# Altium footprint library mouse_library.PcbLib: 5 footprints
Each footprint in its own frame and in the unit in brackets; x right, y up, seen from the top. Pads: shape width x height; smd on the part's side, far side on the other; paste and mask are expansions set on the pad; w line width, h text height; cw(c..) or ccw(c..) is an arc to the next point about the centre after c.
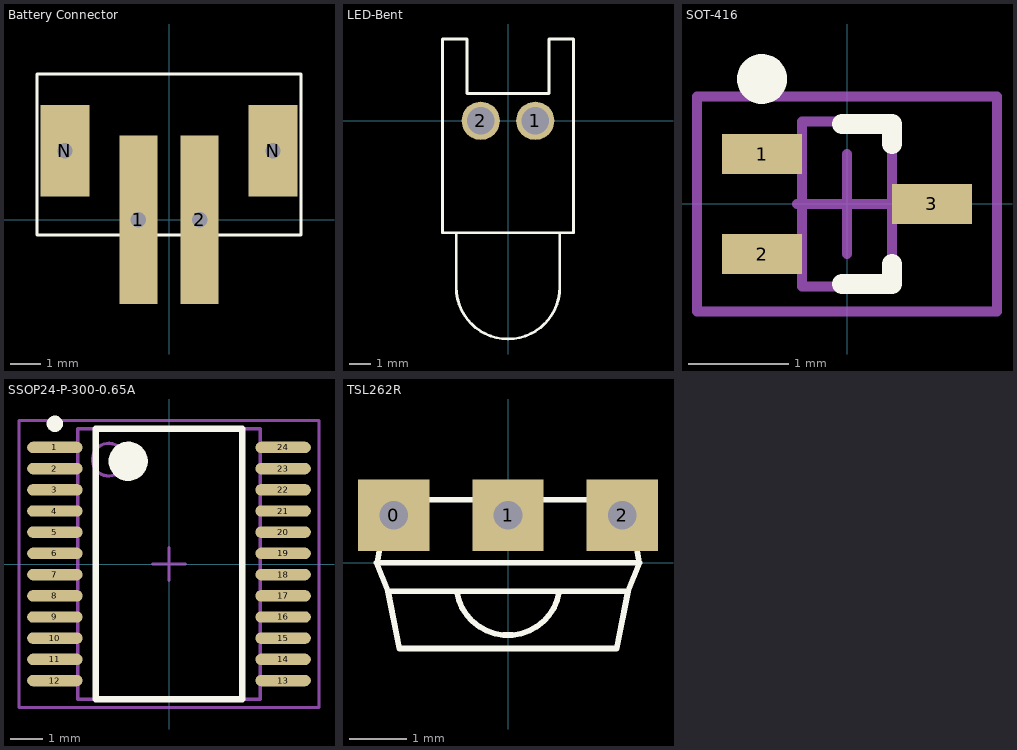
[diagram p0: the footprints below, top view; thin cyan lines are the x and y axes]

## Battery Connector [mm]
pads (4):
  rect 1.25x5.5 hole 0.5 square: 1(-1,0) 2(1,0)
  rect 1.6x3 hole 0.5 square: N(-3.4,2.25) N(3.4,2.25)
Top Overlay:
  lines w0.1: -4.318,-0.508 -4.318,4.75 4.318,4.75 4.318,-0.508 ; -4.318,-0.5 4.318,-0.5

## LED-Bent [mil] "LED; 2 Leads"
pads (2):
  round 70 hole 50: 1(50,0) 2(-50,0)
Top Overlay:
  lines w5: -95,-205 -95,-305 ccw(c0,-305) 95,-305 95,-205 ; -120,-205 120,-205 120,150 75,150 75,50 -75,50 -75,150 -120,150 -120,-205

## SOT-416 [mm] "SOT23, 3-Leads, Body 1.6x1.7mm (max), Pitch 0.50mm, IPC Medium Density"
height 0.9
pads (3):
  rect 0.8x0.4 smd: 1(-0.85,0.5) 2(-0.85,-0.5) 3(0.85,0)
Top Overlay:
  circle w0.25: c-0.85,1.25 r0.125
  lines w0.2: -0.05,-0.8 0.45,-0.8 0.45,-0.6 ; -0.05,0.8 0.45,0.8 0.45,0.6
Mechanical 13:
  lines w0.1: -0.45,-0.825 0.45,-0.825 0.45,0.825 -0.45,0.825 -0.45,-0.825
Mechanical 15:
  lines w0.1: -0.5,0 0.5,0 ; 0,-0.5 0,0.5 ; -1.5,-1.075 1.5,-1.075 1.5,1.075 -1.5,1.075 -1.5,-1.075
3D body: height 0.9, standoff 0, extent -0.45,-0.825 0.45,0.825

## SSOP24-P-300-0.65A [mm] "TSOP, 24-Leads, Body 8.3x5.6mm (max), Pitch 0.65mm, IPC Medium Density"
height 1.6
pads (24):
  oval 1.7x0.35 smd: 1(-3.5,3.575) 2(-3.5,2.925) 3(-3.5,2.275) 4(-3.5,1.625) 5(-3.5,0.975) 6(-3.5,0.325) 7(-3.5,-0.325) 8(-3.5,-0.975) 9(-3.5,-1.625) 10(-3.5,-2.275) 11(-3.5,-2.925) 12(-3.5,-3.575) 13(3.5,-3.575) 14(3.5,-2.925) 15(3.5,-2.275) 16(3.5,-1.625) 17(3.5,-0.975) 18(3.5,-0.325) 19(3.5,0.325) 20(3.5,0.975) 21(3.5,1.625) 22(3.5,2.275) 23(3.5,2.925) 24(3.5,3.575)
Top Overlay:
  circle w0.25: c-3.5,4.3 r0.125
  circle w0.6: c-1.25,3.15 r0.3
  lines w0.2: -2.25,-4.15 -2.25,4.15 2.25,4.15 2.25,-4.15 -2.25,-4.15
Mechanical 13:
  circle w0.1: c-1.85,3.2 r0.5
  lines w0.1: -2.8,-4.15 -2.8,4.15 2.8,4.15 2.8,-4.15 -2.8,-4.15
Mechanical 15:
  lines w0.1: -0.5,0 0.5,0 ; 0,-0.5 0,0.5 ; -4.6,-4.4 -4.6,4.4 4.6,4.4 4.6,-4.4 -4.6,-4.4
3D body: height 1.6, standoff 0.05, extent -2.8,-4.15 2.8,4.15

## TSL262R [mm] "IR Receiver"
pads (3):
  rect 1.25x1.25 hole 0.5 square: 0(-2,0.83) 1(0,0.83) 2(2,0.83)
Top Overlay:
  lines w0.1: -2.286,0 -2.1,1.1 2.1,1.1 2.3,0 ; -0.9,-0.5 ccw(c0,-0.359) 0.9,-0.5 ; -2.1,-0.5 -1.9,-1.5 1.9,-1.5 2.1,-0.5 ; -2.1,-0.5 -2.3,0 2.3,0 ; -2.1,-0.5 2.1,-0.5 ; 2.1,-0.5 2.3,0